# Altium footprint library STM32F103RCT6.PcbLib: 6 footprints
Each footprint in its own frame and in the unit in brackets; x right, y up, seen from the top. Pads: shape width x height; smd on the part's side, far side on the other; paste and mask are expansions set on the pad; w line width, h text height; cw(c..) or ccw(c..) is an arc to the next point about the centre after c.
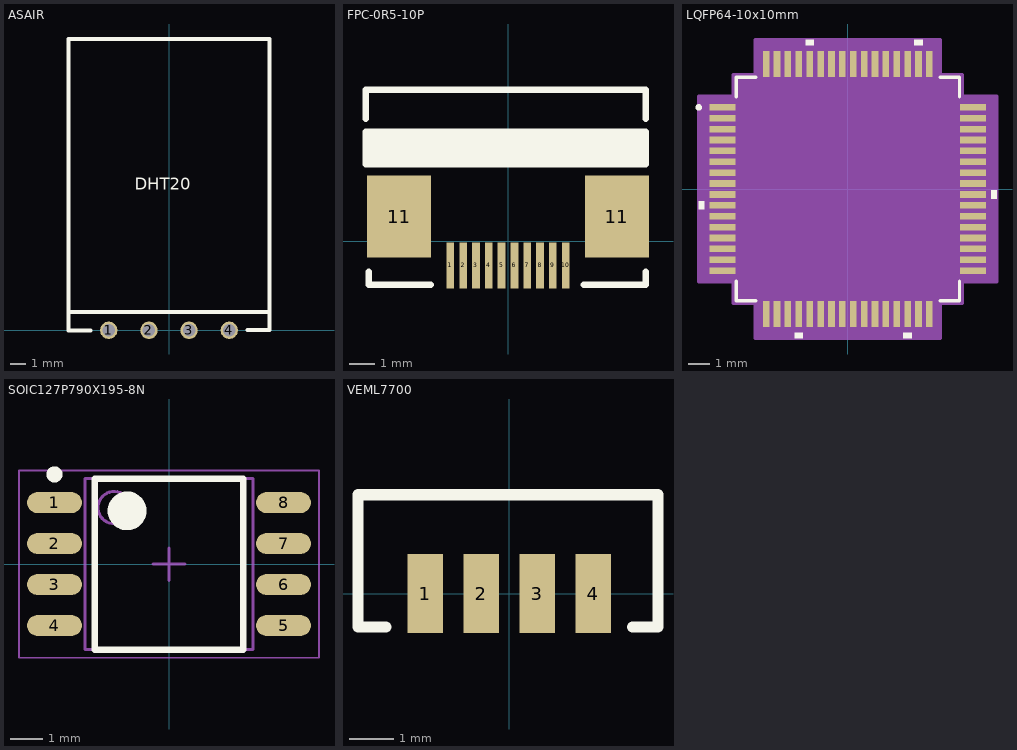
[diagram p0: the footprints below, top view; thin cyan lines are the x and y axes]

## ASAIR [mm] "DHT20是DHT11的全新升级产品，配置了专用的ASIC传感器芯片、高性能的半导体硅基电容式湿度传感器和一个标准的片上温度传感器，并使用了标准I2C数据输出信号格式"
pads (4):
  round 1.1 hole 0.8 unplated: 1(-3.81,0) 2(-1.27,0) 3(1.27,0) 4(3.81,0)
Top Overlay:
  lines w0.254: -4.953,0 -6.35,0 -6.35,1.172 ; 4.953,0.029 6.35,0.029 6.35,1.172 -6.35,1.172 ; 6.321,1.172 6.35,1.143 6.35,18.415 -6.35,18.415 -6.35,1.172
  text "DHT20" at -2.159,8.89 h0.76
3D body "User Library-DHT11-right.STEP": height 5.5, standoff -2.6, extent -6.031,-0.36 5.969,18.14

## FPC-0R5-10P [mm]
pads (12):
  rect 0.3x1.8 smd mask+0.051: 1(-2.25,-0.95) 2(-1.75,-0.95) 3(-1.25,-0.95) 4(-0.75,-0.95) 5(-0.25,-0.95) 6(0.25,-0.95) 7(0.75,-0.95) 8(1.25,-0.95) 9(1.75,-0.95) 10(2.25,-0.95)
  rect 2.5x3.2 smd: 11(-4.25,0.95) 11(4.25,0.95)
Top Overlay:
  rectangle: -5.552,2.987 5.37,4.257
  lines w0.254: -5.552,4.765 -5.552,5.908 5.37,5.908 5.37,4.765 ; -5.425,-1.204 -5.425,-1.712 -3.012,-1.712 ; 2.957,-1.712 5.37,-1.712 5.37,-1.204 ; -5.552,2.987 -5.552,4.257 5.37,4.257 5.37,2.987 -5.552,2.987

## LQFP64-10x10mm [mm]
pads (64):
  rect 1.194x0.305 smd paste+0 mask+0: 1(-5.75,3.75) 2(-5.75,3.25) 3(-5.75,2.75) 4(-5.75,2.25) 5(-5.75,1.75) 6(-5.75,1.25) 7(-5.75,0.75) 8(-5.75,0.25) 9(-5.75,-0.25) 10(-5.75,-0.75) 11(-5.75,-1.25) 12(-5.75,-1.75) 13(-5.75,-2.25) 14(-5.75,-2.75) 15(-5.75,-3.25) 16(-5.75,-3.75) 33(5.75,-3.75) 34(5.75,-3.25) 35(5.75,-2.75) 36(5.75,-2.25) 37(5.75,-1.75) 38(5.75,-1.25) 39(5.75,-0.75) 40(5.75,-0.25) 41(5.75,0.25) 42(5.75,0.75) 43(5.75,1.25) 44(5.75,1.75) 45(5.75,2.25) 46(5.75,2.75) 47(5.75,3.25) 48(5.75,3.75)
  rect 0.305x1.194 smd paste+0 mask+0: 17(-3.75,-5.75) 18(-3.25,-5.75) 19(-2.75,-5.75) 20(-2.25,-5.75) 21(-1.75,-5.75) 22(-1.25,-5.75) 23(-0.75,-5.75) 24(-0.25,-5.75) 25(0.25,-5.75) 26(0.75,-5.75) 27(1.25,-5.75) 28(1.75,-5.75) 29(2.25,-5.75) 30(2.75,-5.75) 31(3.25,-5.75) 32(3.75,-5.75) 49(3.75,5.75) 50(3.25,5.75) 51(2.75,5.75) 52(2.25,5.75) 53(1.75,5.75) 54(1.25,5.75) 55(0.75,5.75) 56(0.25,5.75) 57(-0.25,5.75) 58(-0.75,5.75) 59(-1.25,5.75) 60(-1.75,5.75) 61(-2.25,5.75) 62(-2.75,5.75) 63(-3.25,5.75) 64(-3.75,5.75)
Top Overlay:
  circle w0.152: c-6.851,3.75 r0.076
  region: -1.559,6.601 -1.94,6.601 -1.94,6.855 -1.559,6.855
  region: 3.441,6.601 3.06,6.601 3.06,6.855 3.441,6.855
  region: 6.601,-0.059 6.855,-0.059 6.855,-0.44 6.601,-0.44
  region: 2.94,-6.601 2.559,-6.601 2.559,-6.855 2.94,-6.855
  region: -2.06,-6.601 -2.441,-6.601 -2.441,-6.855 -2.06,-6.855
  region: -6.601,-0.56 -6.855,-0.56 -6.855,-0.941 -6.601,-0.941
  lines w0.152: -5.131,-4.234 -5.131,-5.131 -4.234,-5.131 ; -5.131,4.234 -5.131,5.131 -4.234,5.131 ; 4.234,-5.131 5.131,-5.131 5.131,-4.234 ; 4.234,5.131 5.131,5.131 5.131,4.234
Mechanical 13:
  circle w0: c-4.518,3.75 r0.076
  lines w0.025: -5.004,3.734 -3.734,5.004 ; -5.004,-5.004 -5.004,5.004 5.004,5.004 5.004,-5.004 -5.004,-5.004
Mechanical 15:
  region: -4.258,-5.258 -5.258,-5.258 -5.258,-4.258 -6.855,-4.258 -6.855,4.258 -5.258,4.258 -5.258,5.258 -4.258,5.258 -4.258,6.855 4.258,6.855 4.258,5.258 5.258,5.258 5.258,4.258 6.855,4.258 6.855,-4.258 5.258,-4.258 5.258,-5.258 4.258,-5.258 4.258,-6.855 -4.258,-6.855
  lines w0.152: -6.855,-4.258 -6.855,4.258 -5.258,4.258 -5.258,5.258 -4.258,5.258 -4.258,6.855 4.258,6.855 4.258,5.258 5.258,5.258 5.258,4.258 6.855,4.258 6.855,-4.258 5.258,-4.258 5.258,-5.258 4.258,-5.258 4.258,-6.855 -4.258,-6.855 -4.258,-5.258 -5.258,-5.258 -5.258,-4.258 -6.855,-4.258
3D body "LQFP64-10x10mm.step": height 1.6, standoff 0, extent -5.997,-5.997 5.997,5.997

## SOIC127P790X195-8N [mm] "SOIC, 8-Leads, Body 5.28x5.23mm, Pitch 1.27mm, IPC Medium Density"
height 1.95
pads (8):
  oval 1.7x0.65 smd: 1(-3.55,1.905) 2(-3.55,0.635) 3(-3.55,-0.635) 4(-3.55,-1.905) 5(3.55,-1.905) 6(3.55,-0.635) 7(3.55,0.635) 8(3.55,1.905)
Top Overlay:
  circle w0.25: c-3.55,2.78 r0.125
  circle w0.6: c-1.3,1.65 r0.3
  lines w0.2: -2.3,-2.65 -2.3,2.65 2.3,2.65 2.3,-2.65 -2.3,-2.65
Mechanical 13:
  circle w0.1: c-1.7,1.75 r0.5
  lines w0.1: -2.6,-2.65 -2.6,2.65 2.6,2.65 2.6,-2.65 -2.6,-2.65
Mechanical 15:
  lines w0.05: -4.65,-2.9 -4.65,2.9 4.65,2.9 4.65,-2.9 -4.65,-2.9
  lines w0.1: -0.5,0 0.5,0 ; 0,-0.5 0,0.5
3D body: height 1.95, standoff 0.1, extent -2.6,-2.65 2.6,2.65

## SOIC-8P [mm]

## VEML7700 [mm] "VEML7700 is a high accuracy ambient light digital 16-bit  resolution sensor in a miniature transparent"
pads (4):
  rect 0.8x1.8 smd: 1(-1.905,0) 2(-0.635,0) 3(0.635,0) 4(1.905,0)
Top Overlay:
  lines w0.254: -2.794,-0.762 -3.429,-0.762 -3.429,2.238 3.371,2.238 3.371,-0.762 2.794,-0.762
3D body "User Library-Veml7700.STEP": height 2.35, standoff 0, extent -3.371,-0.738 3.429,2.262